# Altium schematic symbol library AT42QT1040-MMH.Schlib: 1 symbol
Pins are listed as number, name and electrical type; pins without a type are passive.

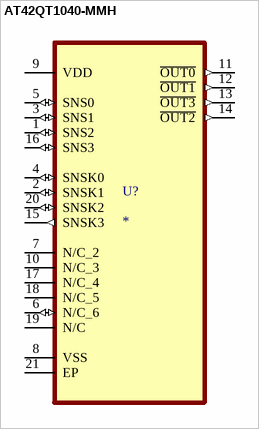
[diagram p0: symbol AT42QT1040-MMH]

## AT42QT1040-MMH
designator U?
QTouch 4-Key Sensor IC; MF: {'manufacturer': u'Microchip'}; MP: AT42QT1040-MMH; Value: *; Price: None; Availability: Unavailable; Package: None; ComponentLink1Description: LCSC - Microchip Tech AT42QT1040-MMHR; ComponentLink1URL: https://lcsc.com/product-detail/Touch-Screen-Controller-ICs_MICROCHIP_AT42QT1040-MMHR_AT42QT1040-MMHR_C144185.html/?href=jlc-SMT; LCSC Part #: C144185; JLCPCB Part Type: Extended
footprint QFN45P300X300X85-21N
pins: 1 SNS2 (io), 2 SNSK1 (io), 3 SNS1 (io), 4 SNSK0 (io), 5 SNS0 (io), 6 N/C_6 (io), 7 N/C_2, 8 VSS, 9 VDD (power), 10 N/C_3, 11 ~{OUT0} (out), 12 ~{OUT1} (out), 13 ~{OUT3} (out), 14 ~{OUT2} (out), 15 SNSK3 (out), 16 SNS3 (io), 17 N/C_4, 18 N/C_5, 19 N/C, 20 SNSK2 (io), 21 EP